# Altium schematic symbol library Schlib1.SchLib: 14 symbols
Pins are listed as number, name and electrical type; pins without a type are passive.

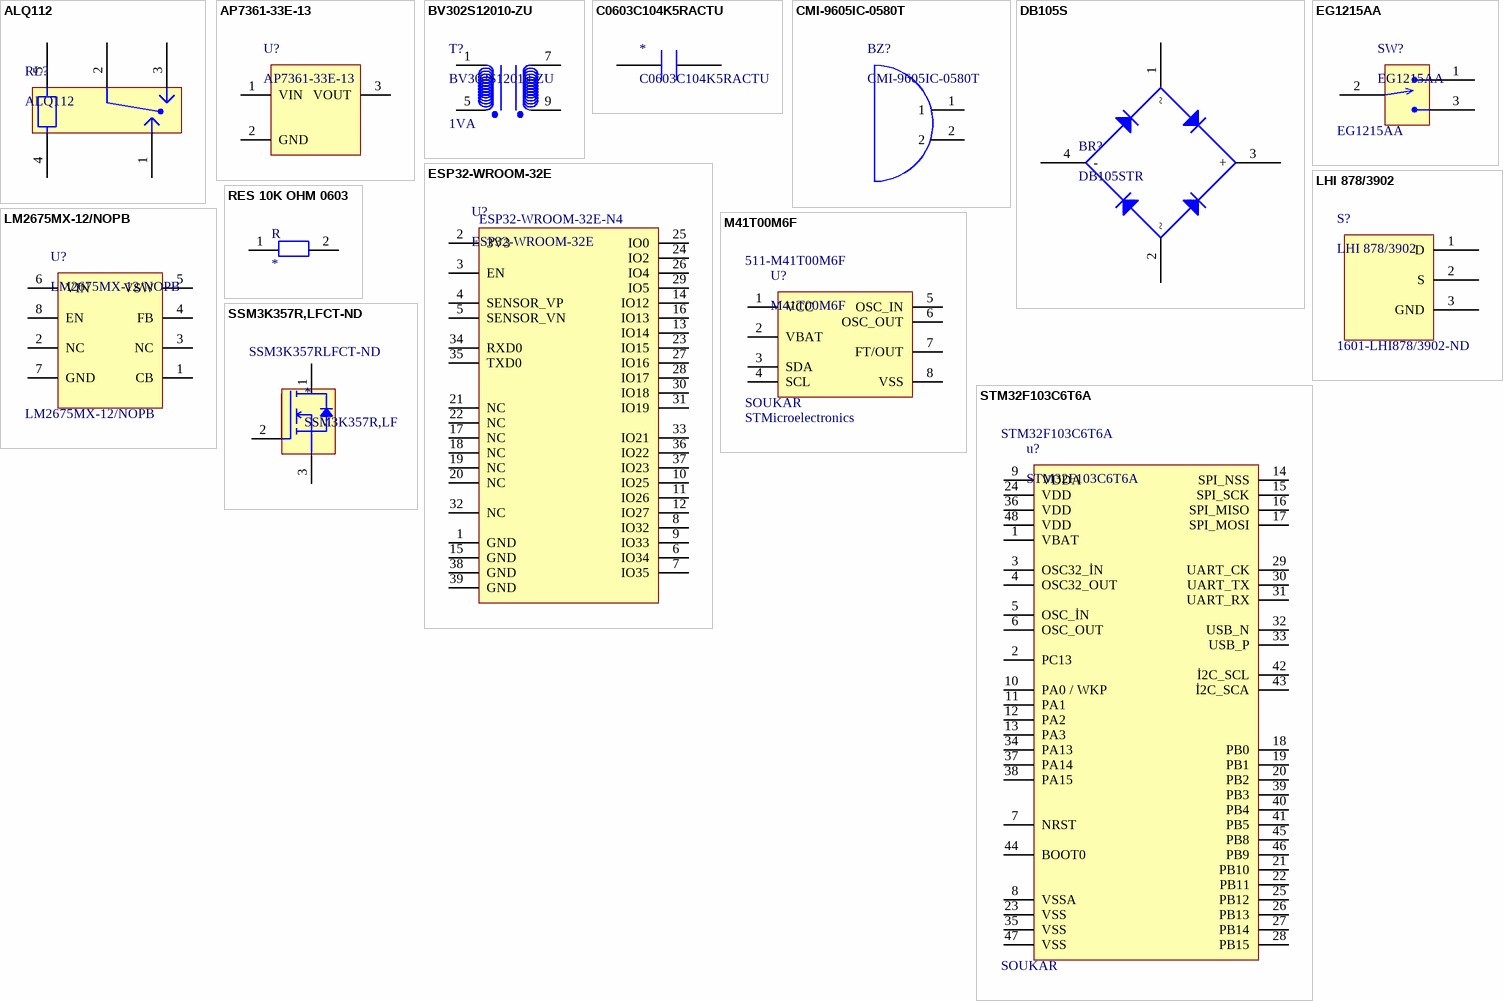
[diagram p0: symbols ALQ112 to STM32F103C6T6A]

## ALQ112
designator RL?
Electromechanical Relay 12VDC 360Ohm 10(NO)/3(NC)A SPDT (( 20mm 10mm 16mm)) THT Power Relay; Manufacturer: Panasonic; Coil Current: 30mA; Coil Power: 400mW; Coil Resistance: 360Ω; Coil Type: Non-Latching; Coil Voltage (DC): 9V; Contact Current Rating: 10A; Contact Resistance: 100mΩ; Contact Voltage Rating (AC): 125V; Electrical Life: 50kcycles; Insulation Resistance: 1GΩ; Max Current Rating: 5A; Max Voltage Rating (AC): 250V; Max Voltage Rating (DC): 30V; Operate Time: 20ms; Relay Type: General Purpose; Sealable: MOISTURE PROOF; Supplier: Farnell; Supplier Part Number: 2503673; Manufacturer Part Number: ALQ112; RoHS: Compliant; Category: Power Relays; Stock: 6989; Pricing: 1=1,17, 10=1,05, 25=0,999, 50=0,965, 100=0,932 (EUR); Contact Material: Silver; Depth: 10mm; Export Control Classification Number (ECCN) Code: EAR99; Height: 16mm; Harmonized Tariff Schedule (HTS) Code: 8536.41.00.20; Introduction Date: 2012-07-17; Lead Free: Lead Free; Length: 20mm; Lifecycle Status: Production; Max Operating Temperature: 85°C; Min Operating Temperature: -40°C; Pins: 5; Number of Terminals: 5; Packaging: Box; Power Consumption: 400mW; Power Rating: 400mW; REACH SVHC: Yes; Release Time: 20ms; Response Time: 20ms; Termination: PC Pin; Throw Configuration: SPDT; Voltage Rating (AC): 250V; Weight: 7g; Width: 10mm; ComponentLink1URL: https://datasheet.octopart.com:443/ALQ112-Panasonic-datasheet-78834688.pdf?src-supplier=IHS; ComponentLink1Description: https://datasheet.octopart.com:443/ALQ112-Panasonic-datasheet-78834688.pdf?src-supplier=IHS; ComponentLink2URL: https://datasheet.octopart.com:443/ALQ112-Panasonic-datasheet-55972779.pdf?src-supplier=RS+(Formerly+Allied+Electronics); ComponentLink2Description: https://datasheet.octopart.com:443/ALQ112-Panasonic-datasheet-55972779.pdf?src-supplier=RS+(Formerly+Allied+Electronics); ComponentLink3URL: https://datasheet.octopart.com:443/ALQ112-Panasonic-datasheet-151511680.pdf?src-supplier=Master+Electronics; ComponentLink3Description: https://datasheet.octopart.com:443/ALQ112-Panasonic-datasheet-151511680.pdf?src-supplier=Master+Electronics; ComponentLink4URL: https://datasheet.octopart.com:443/ALQ112-Panasonic-datasheet-137460476.pdf?src-supplier=Electro+Sonic; ComponentLink4Description: https://datasheet.octopart.com:443/ALQ112-Panasonic-datasheet-137460476.pdf?src-supplier=Electro+Sonic; ComponentLink5URL: https://datasheet.octopart.com:443/ALQ112-Panasonic-datasheet-27086609.pdf?src-supplier=Electro+Sonic; ComponentLink5Description: https://datasheet.octopart.com:443/ALQ112-Panasonic-datasheet-27086609.pdf?src-supplier=Electro+Sonic; ComponentLink6URL: https://datasheet.octopart.com:443/ALQ112-Panasonic-datasheet-45185651.pdf?src-supplier=Electro+Sonic; ComponentLink6Description: https://datasheet.octopart.com:443/ALQ112-Panasonic-datasheet-45185651.pdf?src-supplier=Electro+Sonic; ComponentLink7URL: https://datasheet.octopart.com:443/ALQ112-Panasonic-datasheet-17725145.pdf?src-supplier=Factory+Futures; ComponentLink7Description: https://datasheet.octopart.com:443/ALQ112-Panasonic-datasheet-17725145.pdf?src-supplier=Factory+Futures; ComponentLink8URL: https://datasheet.octopart.com:443/ALQ112-Panasonic-datasheet-21211495.pdf?src-supplier=Newark; ComponentLink8Description: https://datasheet.octopart.com:443/ALQ112-Panasonic-datasheet-21211495.pdf?src-supplier=Newark
pins: 1 , 2, 3, 4, 5

## AP7361-33E-13
designator U?
AP7361 Series 3.3 V 1 A Low SMT Dropout Fixed-Mode Regulator - SOT-223; Manufacturer: Diodes Inc.; Accuracy: 1%; Dropout Voltage: 500mV; Max Supply Voltage: 6V; Max Junction Temperature (Tj): 150°C; Max Output current: 1A; Max Power Dissipation: 1.1W; Min Current Limit: 1.1A; Min Input Voltage: 4.3V; Min Supply Voltage: 2.2V; Nominal Supply Current: 70µA; Number of Channels: 1; Output Type: Fixed; Output Voltage: 3.3V; Polarity: Positive; Power Dissipation: 1.1kW; Power Supply Rejection Ratio (PSRR): 65dB; Reference Voltage: 800mV; Voltage Tolerance: 6.5%; Supplier: Mouser; Supplier Part Number: 621-AP7361-33E-13; Manufacturer Part Number: AP7361-33E-13; RoHS: Compliant; Category: LDO Voltage Regulators; Pricing: 1=0,31, 10=0,212, 25=0,162, 50=0,188, 100=0,162, 250=0,138, 1000=0,161, 2500=0,138, 10000=0,161 (USD); Ambient Temperature Range High: 85°C; Case/Package: SOT-223; China RoHS: Compliant; Contact Plating: Tin; Height: 1.8mm; Height - Seated (Max): 1.8mm; Lead Free: Lead Free; Length: 6.5mm; Lifecycle Status: NRND; Max Operating Temperature: 85°C; Min Operating Temperature: -40°C; Mounting Technology: Surface Mount; Number of Circuits: 1; Number of Outputs: 1; Pins: 4; Number of Regulators: 1; Number of Terminals: 3; Output Current: 1A; Quiescent Current: 70µA; Radiation Hardening: No; REACH SVHC: Yes; Schedule B: 8542390000, 8542390000|8542390000|8542390000|8542390000|8542390000; Terminal Pitch: 2.3mm; Weight: 7.994566mg; Width: 3.5mm; ComponentLink1URL: https://datasheet.octopart.com:443/AP7361-33E-13-Diodes-Inc.-datasheet-98864116.pdf?src-supplier=IHS; ComponentLink1Description: https://datasheet.octopart.com:443/AP7361-33E-13-Diodes-Inc.-datasheet-98864116.pdf?src-supplier=IHS; ComponentLink2URL: https://sigma.octopart.com:443/138895852/technical_drawing/Diodes-Inc.-AP7361-33E-13.pdf?src-supplier=Upverter; ComponentLink2Description: https://sigma.octopart.com:443/138895852/technical_drawing/Diodes-Inc.-AP7361-33E-13.pdf?src-supplier=Upverter; ComponentLink3URL: https://datasheet.octopart.com:443/AP7361-33E-13-Diodes-Inc.-datasheet-12540156.pdf?src-supplier=Future+Electronics; ComponentLink3Description: https://datasheet.octopart.com:443/AP7361-33E-13-Diodes-Inc.-datasheet-12540156.pdf?src-supplier=Future+Electronics; ComponentLink4URL: https://datasheet.octopart.com:443/AP7361-33E-13-Diodes-Inc.-datasheet-41619607.pdf?src-supplier=Future+Electronics; ComponentLink4Description: https://datasheet.octopart.com:443/AP7361-33E-13-Diodes-Inc.-datasheet-41619607.pdf?src-supplier=Future+Electronics; ComponentLink5URL: http://sigma.octopart.com:80/15540767/rohs_statement/Diodes-Inc.-AP7361-33E-13.pdf?src-supplier=Compliance+Statements; ComponentLink5Description: http://sigma.octopart.com:80/15540767/rohs_statement/Diodes-Inc.-AP7361-33E-13.pdf?src-supplier=Compliance+Statements
pins: 1 VIN, 2 GND, 3 VOUT

## BV302S12010-ZU
designator T?  Rated Power: 1VA
230V Input 1VA Encapsulated Transformer; Manufacturer: Zettler Magnetics; Approvals: UL; Isolation Voltage: 4200000Vrms; Secondary Voltage: 12V; Operating Frequency: 50-60Hz; Supplier: Future Electronics; Supplier Part Number: 9036725; Manufacturer Part Number: BV302S12010; RoHS: Compliant; Category: Uncategorized; Pricing: 15=1,63, 60=1,6, 225=1,58, 375=1,57, 750=1,53 (USD); Country of Origin: Mainland China; Export Control Classification Number (ECCN) Code: EAR99; Height: 22.3mm; Harmonized Tariff Schedule (HTS) Code: 8504.31.40.35; Length: 32.8mm; Width: 27.8mm; ComponentLink1URL: https://datasheet.octopart.com:443/BV302S12010-Zettler-Magnetics-datasheet-111090345.pdf?src-supplier=IHS; ComponentLink1Description: https://datasheet.octopart.com:443/BV302S12010-Zettler-Magnetics-datasheet-111090345.pdf?src-supplier=IHS; ComponentLink2URL: https://datasheet.octopart.com:443/BV302S12010-Zettler-Magnetics-datasheet-67153900.pdf?src-supplier=Future+Electronics; ComponentLink2Description: https://datasheet.octopart.com:443/BV302S12010-Zettler-Magnetics-datasheet-67153900.pdf?src-supplier=Future+Electronics; Primary Voltage: 230V
pins: 1, 5, 7, 9

## C0603C104K5RACTU
designator *
CAP CER 0.1UF 50V X7R 0603
pins: ?1, ?2

## CMI-9605IC-0580T
designator BZ?
Buzzers Indicator, Internally Driven Magnetic 5 V 30mA 2.7kHz 80dB @ 5V, 10cm Through Hole PC Pins; Manufacturer: Same Sky; Shape: Round; Supplier: Mouser; Manufacturer Part Number: CMI-9605IC-0580T; RoHS: Compliant; Category: Buzzers; Stock: 1351; Pricing: 1=1,78, 10=1,37, 50=1,15, 100=1,02, 1000=0,883, 10000=0,836 (USD); Height: 5mm; Length: 9.6mm; Lifecycle Status: Production; Mounting Technology: Through Hole; Schedule B: 8531800040, 8531800040|8531800040, 8531800040|8531800040|8531800040, 8531800040|8531800040|8531800040|8531800040; Voltage Rating: 5V; Width: 9.6mm; ComponentLink1URL: https://datasheet.octopart.com:443/CMI-9605IC-0580T-Same-Sky-datasheet-188822489.pdf?src-supplier=Same+Sky; ComponentLink1Description: https://datasheet.octopart.com:443/CMI-9605IC-0580T-Same-Sky-datasheet-188822489.pdf?src-supplier=Same+Sky; ComponentLink2URL: https://datasheet.octopart.com:443/CMI-9605IC-0580T-Same-Sky-datasheet-181914603.pdf?src-supplier=Same+Sky; ComponentLink2Description: https://datasheet.octopart.com:443/CMI-9605IC-0580T-Same-Sky-datasheet-181914603.pdf?src-supplier=Same+Sky; ComponentLink3URL: https://datasheet.octopart.com:443/CMI-9605IC-0580T-Same-Sky-datasheet-182879756.pdf?src-supplier=Electro+Sonic; ComponentLink3Description: https://datasheet.octopart.com:443/CMI-9605IC-0580T-Same-Sky-datasheet-182879756.pdf?src-supplier=Electro+Sonic; ComponentLink4URL: https://datasheet.octopart.com:443/CMI-9605IC-0580T-Same-Sky-datasheet-192882697.pdf?src-supplier=Farnell; ComponentLink4Description: https://datasheet.octopart.com:443/CMI-9605IC-0580T-Same-Sky-datasheet-192882697.pdf?src-supplier=Farnell; ComponentLink5URL: https://datasheet.octopart.com:443/CMI-9605IC-0580T-Same-Sky-datasheet-189104509.pdf?src-supplier=Master+Electronics; ComponentLink5Description: https://datasheet.octopart.com:443/CMI-9605IC-0580T-Same-Sky-datasheet-189104509.pdf?src-supplier=Master+Electronics; ComponentLink6URL: https://datasheet.octopart.com:443/CMI-9605IC-0580T-Same-Sky-datasheet-188930169.pdf?src-supplier=TME; ComponentLink6Description: https://datasheet.octopart.com:443/CMI-9605IC-0580T-Same-Sky-datasheet-188930169.pdf?src-supplier=TME; ComponentLink7URL: https://datasheet.octopart.com:443/CMI-9605IC-0580T-CUI-Devices-datasheet-175926881.pdf?src-supplier=CUI+Devices+SCT; ComponentLink7Description: https://datasheet.octopart.com:443/CMI-9605IC-0580T-CUI-Devices-datasheet-175926881.pdf?src-supplier=CUI+Devices+SCT; ComponentLink8URL: https://datasheet.octopart.com:443/CMI-9605IC-0580T-CUI-Devices-datasheet-142347661.pdf?src-supplier=CUI+Devices+SCT; ComponentLink8Description: https://datasheet.octopart.com:443/CMI-9605IC-0580T-CUI-Devices-datasheet-142347661.pdf?src-supplier=CUI+Devices+SCT; ComponentLink9URL: https://octopart.com:443/opatz8j6/c1?t=5qO0KEs2bLHjZX3qJjYkvNT38QSgXahmAa4NPTEnFNPx6rAYpgiPAuGrHkvZZeRsxmhmMGDyk-PUN7bTDkZhaDl_qy6qB3Zd0c5Htzqs7T0F7Nx7CUEWlqKKdrMOxHS-0s2tIW_yUFeCoY4BTQ0HIojh-I7DjjECezhse98rILVMntKJyxmCDvy62H99zcTNHVBHGQr_Trbs2imSyhy7B9J9joZgVCZ8y2yba_Q8J-i7ja1to3l4hHB4_GRl0LoxHQviBJzyU0Jd8Tb4bj95eQ1jlwfHo0PLJpFett3TGjIo6IfltJRo8imzCHrV7gedxPMU7XZXUHNn4vVPqfz7a-NDO4qQI1G1ycw6M3_dzSLNYA&src-supplier=Compliance+Statements; ComponentLink9Description: https://octopart.com:443/opatz8j6/c1?t=5qO0KEs2bLHjZX3qJjYkvNT38QSgXahmAa4NPTEnFNPx6rAYpgiPAuGrHkvZZeRsxmhmMGDyk-PUN7bTDkZhaDl_qy6qB3Zd0c5Htzqs7T0F7Nx7CUEWlqKKdrMOxHS-0s2tIW_yUFeCoY4BTQ0HIojh-I7DjjECezhse98rILVMntKJyxmCDvy62H99zcTNHVBHGQr_Trbs2imSyhy7B9J9joZgVCZ8y2yba_Q8J-i7ja1to3l4hHB4_GRl0LoxHQviBJzyU0Jd8Tb4bj95eQ1jlwfHo0PLJpFett3TGjIo6IfltJRo8imzCHrV7gedxPMU7XZXUHNn4vVPqfz7a-NDO4qQI1G1ycw6M3_dzSLNYA&src-supplier=Compliance+Statements; ComponentLink10URL: https://octopart.com:443/opatz8j6/c1?t=nEBDj270utKQNCdjE0Avj1Uybz8KMsntcnStiTxXakC-PQFYAbKRuonciSzsjS_aIpLB540741MRF_jIa2o5y1LglPQBeil06a8O-pgxwgumOTUuV7B6ALagLlHBOHbTwzZc5dtZqwsat6bOBTqdcB-9v1NaJ2Ka9WxH2R1xbZlEs1pP4Uam3C8YTvI2NVkgFghyAnanhmaKeYSgvktCzN5yncn3Cb1wLBwd0LBG7RMewF2yaQKEI-f0RH7k-Yo0-NzLEbMCPvgCkrM7LD2fMIVqfTOOr7OWVnTCJihn2OJq2YIIMKOAsvoEUALc3BbSP6zCtL_40Iuh9cuCp0mz36tc4hFK9aP0UblgVMjfXCZBDg&src-supplier=Compliance+Statements; ComponentLink10Description: https://octopart.com:443/opatz8j6/c1?t=nEBDj270utKQNCdjE0Avj1Uybz8KMsntcnStiTxXakC-PQFYAbKRuonciSzsjS_aIpLB540741MRF_jIa2o5y1LglPQBeil06a8O-pgxwgumOTUuV7B6ALagLlHBOHbTwzZc5dtZqwsat6bOBTqdcB-9v1NaJ2Ka9WxH2R1xbZlEs1pP4Uam3C8YTvI2NVkgFghyAnanhmaKeYSgvktCzN5yncn3Cb1wLBwd0LBG7RMewF2yaQKEI-f0RH7k-Yo0-NzLEbMCPvgCkrM7LD2fMIVqfTOOr7OWVnTCJihn2OJq2YIIMKOAsvoEUALc3BbSP6zCtL_40Iuh9cuCp0mz36tc4hFK9aP0UblgVMjfXCZBDg&src-supplier=Compliance+Statements; Supplier Part Number: 490-CMI-9605IC-0580T
pins: 1, 2

## DB105S
designator BR?, comment DB105STR
BRIDGE RECT 1PHASE 600V 1A DB-S; Supplier 1: Future Electronics; ROHS: No; Operating Voltage: 600V; Max Current: 1A; Supplier Part Number 1: 5119461
pins: 1 ~, 2 ~, 3 +, 4 -

## EG1215AA
designator SW?
Slide Switch, SPDT, On-on, 25 ma, 24V DC, Surf. Mt., Ra, Gull Wing; Manufacturer: E-Switch; Contact Current Rating: 25mA; Number of Positions: 2; Supplier: Mouser; RoHS: Compliant; Category: Uncategorized; Stock: 3201; Pricing: 1=0,94, 10=0,8, 50=0,744, 100=0,664, 1000=0,545, 10000=0,488 (USD); Contact Material: Copper; Country of Origin: Vietnam; Export Control Classification Number (ECCN) Code: EAR99; Harmonized Tariff Schedule (HTS) Code: 8536.50.70.00; Introduction Date: 2018-06-18; Lifecycle Status: Production; REACH SVHC: Yes; ComponentLink1URL: https://datasheet.octopart.com:443/EG1215AA-E-Switch-datasheet-182201887.pdf?src-supplier=IHS; ComponentLink1Description: https://datasheet.octopart.com:443/EG1215AA-E-Switch-datasheet-182201887.pdf?src-supplier=IHS; ComponentLink2URL: https://datasheet.octopart.com:443/EG1215AA-E-Switch-datasheet-156105969.pdf?src-supplier=Future+Electronics; ComponentLink2Description: https://datasheet.octopart.com:443/EG1215AA-E-Switch-datasheet-156105969.pdf?src-supplier=Future+Electronics; ComponentLink3URL: https://datasheet.octopart.com:443/EG1215AA-E-Switch-datasheet-101745667.pdf?src-supplier=Electro+Sonic; ComponentLink3Description: https://datasheet.octopart.com:443/EG1215AA-E-Switch-datasheet-101745667.pdf?src-supplier=Electro+Sonic; Supplier Part Number: 612-EG1215AA; Manufacturer Part Number: EG1215AA
pins: 1, 2, 3

## ESP32-WROOM-32E
designator U?  Manufacturer Part Number: ESP32-WROOM-32E-N4
WiFi Modules，Built-in ESP32-D0WD-V3 chip, Xtensa dual core 32-bit LX6 microprocessor, 240MHz; Manufacturer: Espressif Systems; Designed by: SOUKAR; Max Supply Voltage: 3.6V; Min Supply Voltage: 3V; Operating Supply Voltage: 3.3V; Supplier: Mouser; Supplier Part Number: 356-ESP32WRM32E132PH; RoHS: Compliant; Category: RF Transceiver Modules and Modems; Stock: 61549; Pricing: 1=5,59, 10=5, 50=3,96, 100=3,82, 1000=3,31, 10000=3 (USD); Height - Seated (Max): 3.25mm; Length: 25.5mm; Max Operating Temperature: 85°C; Min Operating Temperature: -40°C; Number of Terminals: 38; REACH SVHC: Yes; Terminal Pitch: 1.27mm; Width: 18mm; ComponentLink1URL: https://datasheet.octopart.com:443/ESP32-WROOM-32E-N4-Espressif-Systems-datasheet-182247776.pdf?src-supplier=IHS; ComponentLink1Description: https://datasheet.octopart.com:443/ESP32-WROOM-32E-N4-Espressif-Systems-datasheet-182247776.pdf?src-supplier=IHS; ComponentLink2URL: https://datasheet.octopart.com:443/ESP32-WROOM-32E-N4-Espressif-Systems-datasheet-192340067.pdf?src-supplier=HQonline; ComponentLink2Description: https://datasheet.octopart.com:443/ESP32-WROOM-32E-N4-Espressif-Systems-datasheet-192340067.pdf?src-supplier=HQonline; ComponentLink3URL: https://datasheet.octopart.com:443/ESP32-WROOM-32E-N4-Espressif-Systems-datasheet-188867343.pdf?src-supplier=TME; ComponentLink3Description: https://datasheet.octopart.com:443/ESP32-WROOM-32E-N4-Espressif-Systems-datasheet-188867343.pdf?src-supplier=TME; ComponentLink4URL: https://datasheet.octopart.com:443/ESP32-WROOM-32E-N4-Espressif-Systems-datasheet-165560559.pdf?src-supplier=TME; ComponentLink4Description: https://datasheet.octopart.com:443/ESP32-WROOM-32E-N4-Espressif-Systems-datasheet-165560559.pdf?src-supplier=TME; ComponentLink5URL: https://datasheet.octopart.com:443/ESP32-WROOM-32E-N4-Espressif-Systems-datasheet-151884363.pdf?src-supplier=Future+Electronics; ComponentLink5Description: https://datasheet.octopart.com:443/ESP32-WROOM-32E-N4-Espressif-Systems-datasheet-151884363.pdf?src-supplier=Future+Electronics; Supplier 1: Mouser; Supplier Part Number 1: 356-ESP32WRM32E132PH
pins: 1 GND, 2 3V3, 3 EN, 4 SENSOR_VP, 5 SENSOR_VN, 6 IO34, 7 IO35, 8 IO32, 9 IO33, 10 IO25, 11 IO26, 12 IO27, 13 IO14, 14 IO12, 15 GND, 16 IO13, 17 NC, 18 NC, 19 NC, 20 NC, 21 NC, 22 NC, 23 IO15, 24 IO2, 25 IO0, 26 IO4, 27 IO16, 28 IO17, 29 IO5, 30 IO18, 31 IO19, 32 NC, 33 IO21, 34 RXD0, 35 TXD0, 36 IO22, 37 IO23, 38 GND, 39 GND

## LHI 878/3902
designator S?  Supplier Part Number: 1601-LHI878/3902-ND
SENSOR PYRO DETECTOR DUAL MOTION; Max Supply Voltage: 12; Min Supply Voltage: 2; Supplier 1: digi-key; Type: Pyro Detector
pins: 1 D, 2 S, 3 GND

## LM2675MX-12/NOPB
designator U?
SIMPLE SWITCHER® 6.5V to 40V, 1A Low Component Count Step-Down Regulator 8-SOIC -40 to 125; Manufacturer: Texas Instruments; Manufacturer Lifecycle Status: ACTIVE; Efficiency: 94%; Max Duty Cycle: 95%; Max Junction Temperature (Tj): 125°C; Min Input Voltage: 8V; Nominal Supply Current: 2.5mA; Number of Outputs: 1; Output Type: Fixed; Output Voltage: 12V; Switching Frequency: 260kHz; Synchronous Rectifier: No; Topology: Buck; Supplier: Mouser; RoHS: Compliant; Category: Voltage Regulators - Switching; Stock: 1018; Pricing: 1=4,8, 10=3,66, 50=3,37, 100=3,06, 1000=2,74, 10000=2,65 (USD); Case/Package: SOIC; Contact Plating: Tin; Height: 1.75mm; Lead Free: Lead Free; Length: 4.9mm; Lifecycle Status: Production; Max Supply Voltage: 40V; Max Operating Temperature: 125°C; Max Output current: 1A; Min Operating Temperature: -40°C; Min Supply Voltage: 6.5V; Mounting Technology: Surface Mount; Pins: 8; Operating Supply Voltage: 40V; Output Current: 1A; Quiescent Current: 2.5mA; Radiation Hardening: No; Schedule B: 8542390000; Thickness: 1.58mm; Width: 3.91mm; ComponentLink1URL: https://datasheet.octopart.com:443/LM2675MX-12-NOPB-Texas-Instruments-datasheet-40057392.pdf?src-supplier=Texas+Instruments; ComponentLink1Description: https://datasheet.octopart.com:443/LM2675MX-12-NOPB-Texas-Instruments-datasheet-40057392.pdf?src-supplier=Texas+Instruments; ComponentLink2URL: https://octopart.com:443/opatz8j6/c1?t=lBNgTNF9_mjaOCmJn3R5oQ8D1NXgicHVzZsgeNSIQoClEPnn-y1pygjj9VGlUTm2ezB4efrfdBjTBV69eqovMT-LmOFm-GGrz3htfz-ejZmmUOsOmWn7vsl0onKs61M0FDf2DLYWv8kPHbwj36OWSw83yaM4NX46h9mwyjSrVfZNurnVWJR1z5L9OPCdMqdLyv9koLmXV5Fi5abJ3zYiD1n5sVA9gDOOO9Sw-mqxoYedabQmJDfFpe-E-fwL4TMQMuNLkC1XfPapb6Z8i78BrRlpMvj6pTmOnlSzn2YD7h0BQ8cVrzpOL4n3UjZg5cEmn1fIFOoP67gtXZbNKhV108P40n6Hejf7HtUr17hqeu-0731rpfUu-eiFDe4kAOeDclSi8g&src-supplier=Texas+Instruments; ComponentLink2Description: https://octopart.com:443/opatz8j6/c1?t=lBNgTNF9_mjaOCmJn3R5oQ8D1NXgicHVzZsgeNSIQoClEPnn-y1pygjj9VGlUTm2ezB4efrfdBjTBV69eqovMT-LmOFm-GGrz3htfz-ejZmmUOsOmWn7vsl0onKs61M0FDf2DLYWv8kPHbwj36OWSw83yaM4NX46h9mwyjSrVfZNurnVWJR1z5L9OPCdMqdLyv9koLmXV5Fi5abJ3zYiD1n5sVA9gDOOO9Sw-mqxoYedabQmJDfFpe-E-fwL4TMQMuNLkC1XfPapb6Z8i78BrRlpMvj6pTmOnlSzn2YD7h0BQ8cVrzpOL4n3UjZg5cEmn1fIFOoP67gtXZbNKhV108P40n6Hejf7HtUr17hqeu-0731rpfUu-eiFDe4kAOeDclSi8g&src-supplier=Texas+Instruments; ComponentLink3URL: https://sigma.octopart.com:443/49249642/technical_drawing/Texas-Instruments-LM2675MX-12-NOPB.pdf?src-supplier=Texas+Instruments; ComponentLink3Description: https://sigma.octopart.com:443/49249642/technical_drawing/Texas-Instruments-LM2675MX-12-NOPB.pdf?src-supplier=Texas+Instruments; ComponentLink4URL: https://datasheet.octopart.com:443/LM2675MX-12/NOPB-Texas-Instruments-datasheet-10678746.pdf?src-supplier=Verical; ComponentLink4Description: https://datasheet.octopart.com:443/LM2675MX-12/NOPB-Texas-Instruments-datasheet-10678746.pdf?src-supplier=Verical; ComponentLink5URL: https://datasheet.octopart.com:443/LM2675MX-12/NOPB-National-Semiconductor-datasheet-14587.pdf?src-supplier=Verical; ComponentLink5Description: https://datasheet.octopart.com:443/LM2675MX-12/NOPB-National-Semiconductor-datasheet-14587.pdf?src-supplier=Verical; ComponentLink6URL: https://datasheet.octopart.com:443/LM2675MX-12-NOPB-Texas-Instruments-datasheet-17727414.pdf?src-supplier=HQonline; ComponentLink6Description: https://datasheet.octopart.com:443/LM2675MX-12-NOPB-Texas-Instruments-datasheet-17727414.pdf?src-supplier=HQonline; ComponentLink7URL: https://datasheet.octopart.com:443/LM2675MX-12-NOPB-Texas-Instruments-datasheet-137316104.pdf?src-supplier=Future+Electronics; ComponentLink7Description: https://datasheet.octopart.com:443/LM2675MX-12-NOPB-Texas-Instruments-datasheet-137316104.pdf?src-supplier=Future+Electronics; ComponentLink8URL: http://sigma.octopart.com:80/reach_statement/Texas-Instruments-company-64.pdf?src-supplier=Compliance+Statements; ComponentLink8Description: http://sigma.octopart.com:80/reach_statement/Texas-Instruments-company-64.pdf?src-supplier=Compliance+Statements; ComponentLink9URL: http://sigma.octopart.com:80/conflict_mineral_statement/Texas-Instruments-company-63.pdf?src-supplier=Compliance+Statements; ComponentLink9Description: http://sigma.octopart.com:80/conflict_mineral_statement/Texas-Instruments-company-63.pdf?src-supplier=Compliance+Statements; Supplier Part Number: 926-LM2675MX-12/NOPB; Manufacturer Part Number: LM2675MX-12/NOPB
pins: 1 CB, 2 NC, 3 NC, 4 FB, 5 VSW, 6 VIN, 7 GND, 8 EN

## M41T00M6F
designator U?  Manufacturer: STMicroelectronics  Supplier Part Number: 511-M41T00M6F  Designed by: SOUKAR
RTC IC, Date Time Format (Date/Month/Year ss: mm: hh), I2C, 2 V to 5.5 V, SOIC-8; Date Format: YY-MM-DD-dd; Frequency: 100kHz; Interface: 2-Wire, Serial; Logic Function: Clock; Clock Frequency: 32kHz; Max Supply Voltage: 5.5V; Memory Size: 8B; Min Supply Voltage: 2V; Nominal Supply Current: 800nA; Number of Outputs: 1; Number of Timers/Counters: 0; Operating Supply Voltage: 3V; Time Format: HH:MM:SS; Supplier: Mouser; Manufacturer Part Number: M41T00M6F; RoHS: Compliant; Category: Real Time Clocks; Stock: 7055; Pricing: 1=3,25, 10=2,44, 50=2,24, 100=2,02, 1000=1,79, 10000=1,71 (USD); Ambient Temperature Range High: 85°C; Case/Package: SOP; China RoHS: Compliant; Country of Origin: Morocco; Export Control Classification Number (ECCN) Code: EAR99; Height: 1.75mm; Height - Seated (Max): 1.75mm; Harmonized Tariff Schedule (HTS) Code: 8542.39.00.60; Introduction Date: 1980-01-04; Lead Free: Lead Free; Length: 4.9mm; Lifecycle Status: Production; Max Operating Temperature: 85°C; Min Operating Temperature: -40°C; Mounting Technology: Surface Mount; Non-volatile Memory Size: 8B; Pins: 8; Number of Terminals: 8; Packaging: Tape and Reel; Radiation Hardening: No; RAM Size: 8B; REACH SVHC: Yes; Schedule B: 8542390000, 8542390000|8542390000, 8542390000|8542390000|8542390000, 8542390000|8542390000|8542390000|8542390000; Temperature Grade: Industrial; Terminal Pitch: 1.27mm; Weight: 540.001716mg; Width: 3.9mm; ComponentLink1URL: https://datasheet.octopart.com:443/M41T00M6F-STMicroelectronics-datasheet-62333762.pdf?src-supplier=HQonline; ComponentLink1Description: https://datasheet.octopart.com:443/M41T00M6F-STMicroelectronics-datasheet-62333762.pdf?src-supplier=HQonline; ComponentLink2URL: https://datasheet.octopart.com:443/M41T00M6F-STMicroelectronics-datasheet-10837540.pdf?src-supplier=Newark; ComponentLink2Description: https://datasheet.octopart.com:443/M41T00M6F-STMicroelectronics-datasheet-10837540.pdf?src-supplier=Newark; ComponentLink3URL: https://datasheet.octopart.com:443/M41T00M6F-STMicroelectronics-datasheet-33008800.pdf?src-supplier=Newark; ComponentLink3Description: https://datasheet.octopart.com:443/M41T00M6F-STMicroelectronics-datasheet-33008800.pdf?src-supplier=Newark; ComponentLink4URL: https://datasheet.octopart.com:443/M41T00M6F-STMicroelectronics-datasheet-605854.pdf?src-supplier=Arrow+Electronics; ComponentLink4Description: https://datasheet.octopart.com:443/M41T00M6F-STMicroelectronics-datasheet-605854.pdf?src-supplier=Arrow+Electronics; ComponentLink5URL: https://datasheet.octopart.com:443/M41T00M6F-STMicroelectronics-datasheet-15096.pdf?src-supplier=Mouser; ComponentLink5Description: https://datasheet.octopart.com:443/M41T00M6F-STMicroelectronics-datasheet-15096.pdf?src-supplier=Mouser; ComponentLink6URL: https://datasheet.octopart.com:443/M41T00M6F-STMicroelectronics-datasheet-104642352.pdf?src-supplier=TME; ComponentLink6Description: https://datasheet.octopart.com:443/M41T00M6F-STMicroelectronics-datasheet-104642352.pdf?src-supplier=TME; ComponentLink7URL: https://datasheet.octopart.com:443/M41T00M6F-STMicroelectronics-datasheet-14079507.pdf?src-supplier=iiiC; ComponentLink7Description: https://datasheet.octopart.com:443/M41T00M6F-STMicroelectronics-datasheet-14079507.pdf?src-supplier=iiiC
pins: 1 VCC, 2 VBAT, 3 SDA, 4 SCL, 5 OSC_IN, 6 OSC_OUT, 7 FT/OUT, 8 VSS

## RES 10K OHM 0603
designator R
100mW Thick Film Resistors ±100ppm/℃ ±1% 10kΩ 0603 Chip Resistor - Surface Mount ROHS; Manufacturer: Yageo Group; Manufacturer Part Number: RC0603FR-0710KL; Temperature Coefficient: 100ppm/°C; Voltage Rating: 75V; Voltage Rating (DC): 50V; Supplier: Mouser; Supplier Part Number: 603-RC0603FR-0710KL; RoHS: Compliant; Category: Chip SMD Resistors; Stock: 1794101; Pricing: 1=0,1, 10=0,006, 50=0,006, 100=0,006, 1000=0,006, 10000=0,002 (USD); Case/Package: 0603; Case Code (Imperial): 0603; Case Code (Metric): 0603; China RoHS: Non-Compliant; Composition: Thick Film; Depth: 800µm; Height: 450µm; Lead Free: Lead Free; Lead Pitch: 300µm; Length: 1.6mm; Lifecycle Status: Production; Max Operating Temperature: 155°C; Military Standard: Not; Min Operating Temperature: -55°C; Mounting Technology: Surface Mount; Pins: 2; Number of Terminals: 2; Packaging: Tape & Reel; Power Dissipation: 100mW; Power Rating: 100mW; REACH SVHC: Yes; Value: 10kΩ; Schedule B: 8533210045, 8533210045|8533210045|8533210045|8533210045|8533210045|8533210045|8533210045|8533210045|8533210045|8533210045|8533210045|8533210045|8533210045|8533210045|8533210045|8533210045|8533210045|8533210045|8533210045|8533210045|8533210045|8533210045|8533210045|85; Termination: SMD/SMT; Tolerance: 1%; Weight: 2.012816mg; Width: 800µm; Working Voltage: 75V; ComponentLink1URL: https://datasheet.octopart.com:443/RC0603FR-0710KL-Yageo-datasheet-175887523.pdf?src-supplier=IHS; ComponentLink1Description: https://datasheet.octopart.com:443/RC0603FR-0710KL-Yageo-datasheet-175887523.pdf?src-supplier=IHS; ComponentLink2URL: https://datasheet.octopart.com:443/RC0603FR-0710KL-Yageo-datasheet-103092701.pdf?src-supplier=Upverter; ComponentLink2Description: https://datasheet.octopart.com:443/RC0603FR-0710KL-Yageo-datasheet-103092701.pdf?src-supplier=Upverter; ComponentLink3URL: https://datasheet.octopart.com:443/RC0603FR-0710KL-Yageo-datasheet-98239111.pdf?src-supplier=Upverter; ComponentLink3Description: https://datasheet.octopart.com:443/RC0603FR-0710KL-Yageo-datasheet-98239111.pdf?src-supplier=Upverter; ComponentLink4URL: https://datasheet.octopart.com:443/RC0603FR-0710KL-Yageo-datasheet-141265859.pdf?src-supplier=Upverter; ComponentLink4Description: https://datasheet.octopart.com:443/RC0603FR-0710KL-Yageo-datasheet-141265859.pdf?src-supplier=Upverter; ComponentLink5URL: https://sigma.octopart.com:443/138820526/technical_drawing/Yageo-RC0603FR-0710KL.pdf?src-supplier=Upverter; ComponentLink5Description: https://sigma.octopart.com:443/138820526/technical_drawing/Yageo-RC0603FR-0710KL.pdf?src-supplier=Upverter; ComponentLink6URL: https://datasheet.octopart.com:443/RC0603FR-0710KL-Yageo-datasheet-8328172.pdf?src-supplier=Farnell; ComponentLink6Description: https://datasheet.octopart.com:443/RC0603FR-0710KL-Yageo-datasheet-8328172.pdf?src-supplier=Farnell; ComponentLink7URL: https://datasheet.octopart.com:443/RC0603FR-0710KL-Yageo-datasheet-13691069.pdf?src-supplier=Farnell; ComponentLink7Description: https://datasheet.octopart.com:443/RC0603FR-0710KL-Yageo-datasheet-13691069.pdf?src-supplier=Farnell; ComponentLink8URL: https://datasheet.octopart.com:443/RC0603FR-0710KL-Yageo-datasheet-62067350.pdf?src-supplier=element14+APAC; ComponentLink8Description: https://datasheet.octopart.com:443/RC0603FR-0710KL-Yageo-datasheet-62067350.pdf?src-supplier=element14+APAC; ComponentLink9URL: https://datasheet.octopart.com:443/RC0603FR-0710KL-Yageo-datasheet-17842380.pdf?src-supplier=element14+APAC; ComponentLink9Description: https://datasheet.octopart.com:443/RC0603FR-0710KL-Yageo-datasheet-17842380.pdf?src-supplier=element14+APAC; ComponentLink10URL: https://datasheet.octopart.com:443/RC0603FR-0710KL-Yageo-datasheet-15599030.pdf?src-supplier=Future+Electronics; ComponentLink10Description: https://datasheet.octopart.com:443/RC0603FR-0710KL-Yageo-datasheet-15599030.pdf?src-supplier=Future+Electronics; ComponentLink11URL: https://datasheet.octopart.com:443/RC0603FR-0710KL-Yageo-Group-datasheet-176638170.pdf?src-supplier=Future+Electronics; ComponentLink11Description: https://datasheet.octopart.com:443/RC0603FR-0710KL-Yageo-Group-datasheet-176638170.pdf?src-supplier=Future+Electronics; ComponentLink12URL: https://datasheet.octopart.com:443/RC0603FR-0710KL-Yageo-datasheet-164759695.pdf?src-supplier=Future+Electronics; ComponentLink12Description: https://datasheet.octopart.com:443/RC0603FR-0710KL-Yageo-datasheet-164759695.pdf?src-supplier=Future+Electronics; ComponentLink13URL: https://datasheet.octopart.com:443/RC0603FR-0710KL-Yageo-datasheet-127823281.pdf?src-supplier=Future+Electronics; ComponentLink13Description: https://datasheet.octopart.com:443/RC0603FR-0710KL-Yageo-datasheet-127823281.pdf?src-supplier=Future+Electronics; ComponentLink14URL: https://datasheet.octopart.com:443/RC0603FR-0710KL-Yageo-datasheet-137700087.pdf?src-supplier=Future+Electronics; ComponentLink14Description: https://datasheet.octopart.com:443/RC0603FR-0710KL-Yageo-datasheet-137700087.pdf?src-supplier=Future+Electronics; ComponentLink15URL: https://datasheet.octopart.com:443/RC0603FR-0710KL-Yageo-datasheet-27584510.pdf?src-supplier=Future+Electronics; ComponentLink15Description: https://datasheet.octopart.com:443/RC0603FR-0710KL-Yageo-datasheet-27584510.pdf?src-supplier=Future+Electronics; ComponentLink16URL: https://datasheet.octopart.com:443/RC0603FR-0710KL-Yageo-datasheet-8324193.pdf?src-supplier=Future+Electronics; ComponentLink16Description: https://datasheet.octopart.com:443/RC0603FR-0710KL-Yageo-datasheet-8324193.pdf?src-supplier=Future+Electronics; ComponentLink17URL: https://datasheet.octopart.com:443/RC0603FR-0710KL-Yageo-datasheet-12596169.pdf?src-supplier=Newark; ComponentLink17Description: https://datasheet.octopart.com:443/RC0603FR-0710KL-Yageo-datasheet-12596169.pdf?src-supplier=Newark; ComponentLink18URL: https://datasheet.octopart.com:443/RC0603FR-0710KL-Yageo-datasheet-503470.pdf?src-supplier=Newark; ComponentLink18Description: https://datasheet.octopart.com:443/RC0603FR-0710KL-Yageo-datasheet-503470.pdf?src-supplier=Newark; ComponentLink19URL: https://datasheet.octopart.com:443/RC0603FR-0710KL-Yageo-datasheet-34211833.pdf?src-supplier=Newark; ComponentLink19Description: https://datasheet.octopart.com:443/RC0603FR-0710KL-Yageo-datasheet-34211833.pdf?src-supplier=Newark; ComponentLink20URL: https://datasheet.octopart.com:443/RC0603FR-0710KL-Yageo-datasheet-79472498.pdf?src-supplier=Megastar; ComponentLink20Description: https://datasheet.octopart.com:443/RC0603FR-0710KL-Yageo-datasheet-79472498.pdf?src-supplier=Megastar; ComponentLink21URL: https://datasheet.octopart.com/RC0603FR-0710KL-Yageo-datasheet-73766026.pdf; ComponentLink21Description: https://datasheet.octopart.com/RC0603FR-0710KL-Yageo-datasheet-73766026.pdf; ComponentLink22URL: https://datasheet.octopart.com:443/RC0603FR-0710KL-Yageo-datasheet-118562.pdf?src-supplier=DigiKey; ComponentLink22Description: https://datasheet.octopart.com:443/RC0603FR-0710KL-Yageo-datasheet-118562.pdf?src-supplier=DigiKey; ComponentLink23URL: http://sigma.octopart.com:80/conflict_mineral_statement/Yageo-company-3.pdf?src-supplier=Compliance+Statements; ComponentLink23Description: http://sigma.octopart.com:80/conflict_mineral_statement/Yageo-company-3.pdf?src-supplier=Compliance+Statements; ComponentLink24URL: http://sigma.octopart.com:80/rohs_statement/Yageo-company-2.pdf?src-supplier=Compliance+Statements; ComponentLink24Description: http://sigma.octopart.com:80/rohs_statement/Yageo-company-2.pdf?src-supplier=Compliance+Statements
pins: 1, 2

## SSM3K357R,LFCT-ND
designator *, comment SSM3K357R,LF  Manufacturer Part Number: SSM3K357RLFCT-ND
Trans MOSFET N-CH Si 60V 0.65A Automotive 3-Pin SOT-23F T/R; Manufacturer: Toshiba; Continuous Drain Current (ID): 650mA; Drain to Source Resistance: 2.4Ω; Max Power Dissipation: 1W; Number of Elements: 1; Supplier: Mouser; Supplier Part Number: 757-SSM3K357RLF; RoHS: Compliant; Category: MOSFETs; Stock: 5446; Pricing: 1=0,52, 10=0,321, 50=0,321, 100=0,206, 1000=0,142, 10000=0,093 (USD); Export Control Classification Number (ECCN) Code: EAR99; Introduction Date: 2021-01-07; Lifecycle Status: Production; Max Operating Temperature: 150°C; Min Breakdown Voltage: 60V; Number of Terminals: 3; REACH SVHC: Yes; Schedule B: 8541290080, 8541290080|8541290080|8541290080|8541290080|8541290080; ComponentLink1URL: https://datasheet.octopart.com:443/SSM3K357R%2CLF-Toshiba-datasheet-181391593.pdf?src-supplier=IHS; ComponentLink1Description: https://datasheet.octopart.com:443/SSM3K357R%2CLF-Toshiba-datasheet-181391593.pdf?src-supplier=IHS
pins: 1, 2, 3

## STM32F103C6T6A
designator u?  Designed by: SOUKAR
MCU 32-bit STM32F ARM Cortex M3 RISC 32KB Flash 2.5V/3.3V 48-Pin LQFP Tray; Manufacturer: STMicroelectronics; Address Bus Width: 32b; Frequency: 72MHz; Interface: CAN, I2C, IrDA, LIN, SPI, UART, USART, USB; Clock Frequency: 16MHz; Max Power Dissipation: 363mW; Max Supply Current: 45mA; Max Supply Voltage: 3.6V; Min Supply Voltage: 2V; Nominal Supply Current: 1.55µA; Number of A/D Converters: 2; Number of ADC Channels: 10; Number of I2C Channels: 1; Number of I/Os: 37; Number of Timers/Counters: 3; Operating Supply Voltage: 3.3V; Oscillator Type: Internal; Peripherals: DMA, I2C, POR, PWM, Temp Sensor, WDT; Watchdog Timer: Yes; RAM Size: 10kB; Supplier: Farnell; RoHS: Compliant; Category: Microcontrollers; Stock: 10112; Pricing: 1=4,74, 10=3,63, 25=3,35, 50=3,18, 100=2,9, 250=2,76, 500=2,67 (EUR); Case/Package: STM32-LQFP48; China RoHS: Compliant; Core Architecture: ARM; Country of Origin: Malaysia; Data Bus Width: 32b; Export Control Classification Number (ECCN) Code: 3A991.A.2; Flash Memory Size: 32kB; Height: 1.45mm; Harmonized Tariff Schedule (HTS) Code: 8542.31.00.25; Introduction Date: 2007-06-07; Lead Free: Lead Free; Length: 7mm; Lifecycle Status: Production; Max Operating Temperature: 85°C; Memory Size: 32kB; Memory Format: FLASH; Min Operating Temperature: -40°C; Number of Channels: 10; Pins: 48; Number of Programmable I/O: 37; Number of SPI Channels: 1; Number of Terminals: 48; Number of USART Channels: 2; Radiation Hardening: No; REACH SVHC: Yes; Schedule B: 8542310000; Temperature Grade: Industrial; Width: 7mm; ComponentLink1URL: https://datasheet.octopart.com:443/STM32F103C6T6A-STMicroelectronics-datasheet-44506906.pdf?src-supplier=Newark; ComponentLink1Description: https://datasheet.octopart.com:443/STM32F103C6T6A-STMicroelectronics-datasheet-44506906.pdf?src-supplier=Newark; ComponentLink2URL: https://datasheet.octopart.com:443/STM32F103C6T6A-STMicroelectronics-datasheet-10669440.pdf?src-supplier=Newark; ComponentLink2Description: https://datasheet.octopart.com:443/STM32F103C6T6A-STMicroelectronics-datasheet-10669440.pdf?src-supplier=Newark; ComponentLink3URL: https://datasheet.octopart.com:443/STM32F103C6T6A-STMicroelectronics-datasheet-16839797.pdf?src-supplier=Newark; ComponentLink3Description: https://datasheet.octopart.com:443/STM32F103C6T6A-STMicroelectronics-datasheet-16839797.pdf?src-supplier=Newark; ComponentLink4URL: https://datasheet.octopart.com:443/STM32F103C6T6A-STMicroelectronics-datasheet-14106722.pdf?src-supplier=iiiC; ComponentLink4Description: https://datasheet.octopart.com:443/STM32F103C6T6A-STMicroelectronics-datasheet-14106722.pdf?src-supplier=iiiC; ComponentLink5URL: https://datasheet.octopart.com:443/STM32F103C6T6A-STMicroelectronics-datasheet-140570543.pdf?src-supplier=Arrow.cn; ComponentLink5Description: https://datasheet.octopart.com:443/STM32F103C6T6A-STMicroelectronics-datasheet-140570543.pdf?src-supplier=Arrow.cn; ComponentLink6URL: https://datasheet.octopart.com:443/STM32F103C6T6A-STMicroelectronics-datasheet-8332104.pdf?src-supplier=Future+Electronics; ComponentLink6Description: https://datasheet.octopart.com:443/STM32F103C6T6A-STMicroelectronics-datasheet-8332104.pdf?src-supplier=Future+Electronics; Terminal Pitch: 500µm; Supplier Part Number: 1972391; Parameter 1: *; Manufacturer Part Number: STM32F103C6T6A
footprint STM32-LQFP48
footprint STM32-LQFP48
pins: 1 VBAT, 2 PC13, 3 OSC32_İN, 4 OSC32_OUT, 5 OSC_İN, 6 OSC_OUT, 7 NRST, 8 VSSA, 9 VDDA, 10 PA0 / WKP, 11 PA1, 12 PA2, 13 PA3, 14 SPI_NSS, 15 SPI_SCK, 16 SPI_MISO, 17 SPI_MOSI, 18 PB0, 19 PB1, 20 PB2, 21 PB10, 22 PB11, 23 VSS, 24 VDD, 25 PB12, 26 PB13, 27 PB14, 28 PB15, 29 UART_CK, 30 UART_TX, 31 UART_RX, 32 USB_N, 33 USB_P, 34 PA13, 35 VSS, 36 VDD, 37 PA14, 38 PA15, 39 PB3, 40 PB4, 41 PB5, 42 İ2C_SCL, 43 İ2C_SCA, 44 BOOT0, 45 PB8, 46 PB9, 47 VSS, 48 VDD